# EAGLE library part 74XX-EU_74*74 (library ネオぴゅう太_ReplaceLibParts)
Dual D type positive edge triggered FLIP FLOP, preset and clear
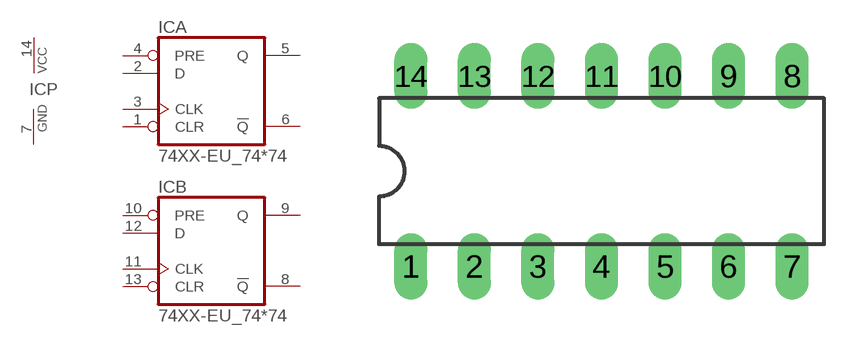
[diagram p3: symbol with the pads of 74XX-EU_DIL14; footprint 74XX-EU_DIL14]

Designator prefix IC; gates A=74XX-EU_7474 B=74XX-EU_7474 P=74XX-EU_PWRN

## 74XX-EU_7474N, 74XX-EU_74AC74N, 74XX-EU_74ACT74N, 74XX-EU_74HC74N, 74XX-EU_74HCT74N, 74XX-EU_74LS74N, 74XX-EU_74S74N  [74XX-EU_DIL14]
1  A:CLR  in
2  A:D  in
3  A:CLK  in
4  A:PRE  in
5  A:Q  out
6  A:!Q  out
7  P:GND  pwr
8  B:!Q  out
9  B:Q  out
10  B:PRE  in
11  B:CLK  in
12  B:D  in
13  B:CLR  in
14  P:VCC  pwr

## Footprint 74XX-EU_DIL14 (pad centres in mm)
Dual In Line Package
drill 0.813 long: 1 -7.62,-3.81; 2 -5.08,-3.81; 3 -2.54,-3.81; 4 0,-3.81; 5 2.54,-3.81; 6 5.08,-3.81; 7 7.62,-3.81; 8 7.62,3.81; 9 5.08,3.81; 10 2.54,3.81; 11 0,3.81; 12 -2.54,3.81; 13 -5.08,3.81; 14 -7.62,3.81